# Altium footprint library FA-128_32.0000MF20X-K5.PcbLib: 2 footprints
Each footprint in its own frame and in the unit in brackets; x right, y up, seen from the top. Pads: shape width x height; smd on the part's side, far side on the other; paste and mask are expansions set on the pad; w line width, h text height; cw(c..) or ccw(c..) is an arc to the next point about the centre after c.
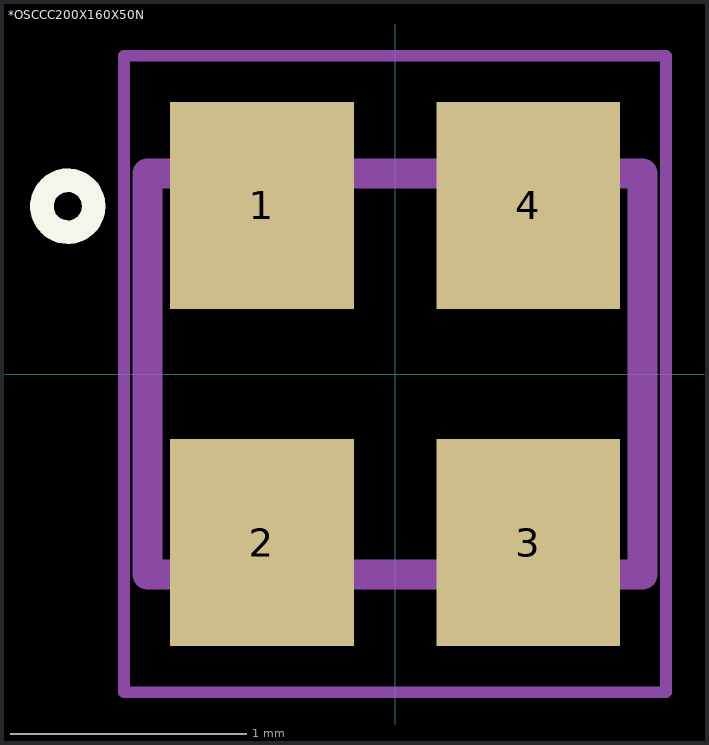
[diagram p0: the footprints below, top view; thin cyan lines are the x and y axes]

## *OSCCC200X160X50N [mm]
pads (4):
  rect 0.78x0.88 smd: 1(-0.565,0.715) 2(-0.565,-0.715) 3(0.565,-0.715) 4(0.565,0.715)
Top Overlay:
  circle w0.1: c-1.388,0.712 r0.11
Mechanical 4:
  lines w0.127: -1.05,-0.85 1.05,-0.85 ; -1.05,-0.85 -1.05,0.85 ; -1.05,-0.85 1.05,-0.85 ; -1.05,-0.85 -1.05,0.85 ; -1.05,0.85 1.05,0.85 ; -1.05,0.85 1.05,0.85 ; 1.05,-0.85 1.05,0.85 ; 1.05,-0.85 1.05,0.85
Mechanical 16:
  lines w0.05: -1.15,-1.35 1.15,-1.35 1.15,1.35 -1.15,1.35 -1.15,-1.35

## PCBComponent_1 [mm]